# Altium schematic symbol library BAT62-02L.SchLib: 1 symbol
Pins are listed as number, name and electrical type; pins without a type are passive.

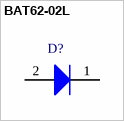
[diagram p0: symbol BAT62-02L]

## BAT62-02L
designator D?
Single Silicon Schottky Diode, 20 mA IF Max, TSLP-2-1, Green; Manufacturer: Infineon; PartNumber: BAT62-02L; CT (typ): 0.35 pF; Green: yes; Group: RF Signal Detection + Power Leveling; IF (max): 20 mA; VF (typ): 0.58 V; VR (max): 40 V; DatasheetVersion: Jun-2011; PackageReference: TSLP-2-1; PackageDescription: 2-Pin Thin Small Leadless Package, 0.6 x 1 mm Body; Supplier 1: Mouser; Supplier Part Number 1: N/A; Configuration: Single; Halogen-free: yes; Mounting Technology: Surface Mount; ComponentLink1Description: Manufacturer URL; ComponentLink1URL: http://www.infineon.com/; ComponentLink2Description: Datasheet; ComponentLink2URL: http://www.infineon.com/dgdl/bat62series.pdf?folderId=db3a304314dca389011518104e5d0df2&fileId=db3a304314dca3890115181141bf0df3&location=en.Products.RF.RF_Mixer___Detector_Schottky_Diodes.DATASHEET.bat62series.pdf; ComponentLink3Description: Package Specification; ComponentLink3URL: http://www.infineon.com/dgdl/TSLP-2-1-Package_Overview.pdf?folderId=db3a30431936bc4b011956a23bb2377c&fileId=db3a30431936bc4b011956b3e8c13795
footprint INF-TSLP-2-1_N (Chip2PinSM, 2-Leads, Body 1x0.6 mm, Pitch 0.65 mm, IPC Medium Density)
footprint INF-TSLP-2-1_L (Chip2PinSM, 2-Leads, Body 1x0.6 mm, Pitch 0.65 mm, IPC High Density)
footprint INF-TSLP-2-1_M (Chip2PinSM, 2-Leads, Body 1x0.6 mm, Pitch 0.65 mm, IPC Low Density)
pins: 1 K, 2 A